# Altium footprint library ch559.PcbLib: 17 footprints (part 2 of 2)
Each footprint in its own frame and in the unit in brackets; x right, y up, seen from the top. Pads: shape width x height; smd on the part's side, far side on the other; paste and mask are expansions set on the pad; w line width, h text height; cw(c..) or ccw(c..) is an arc to the next point about the centre after c.
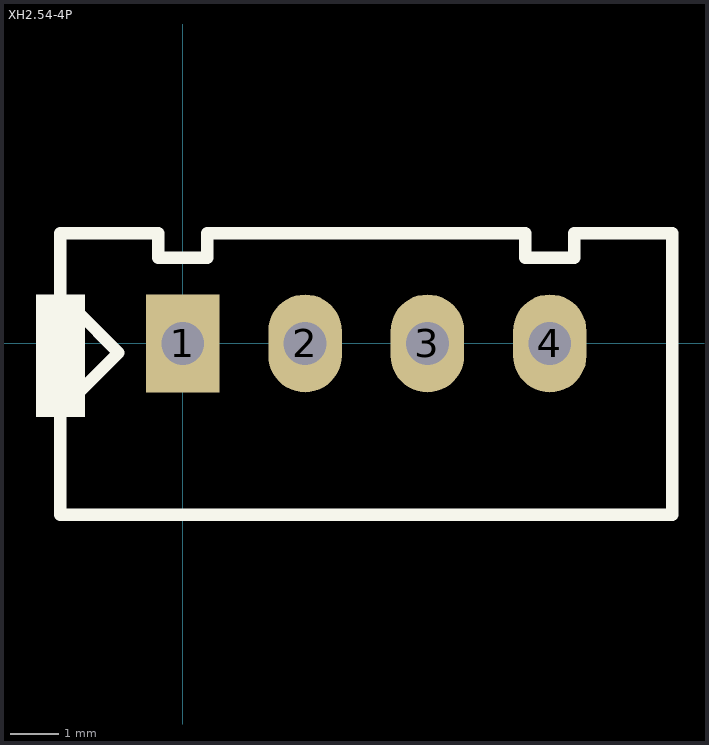
[diagram p1: the footprint, top view; thin cyan lines are the x and y axes]

## XH2.54-4P [mil]
pads (4):
  rect 60x80 hole 35: 1(0,0)
  oval 60x80 hole 35: 2(100,0) 3(200,0) 4(300,0)
Top Overlay:
  region: -80,40 -120,40 -120,-60 -80,-60
  lines w10: -87.44,-42.56 -52.44,-7.56 -87.44,27.44 ; -100,-140 400,-140 400,90 320,90 320,70 280,70 280,90 20,90 20,70 -20,70 -20,90 -100,90 -100,-140
3D body: height 78.74, standoff 0, extent -100,-140 400,90
3D body: height 255.91, standoff 0, extent 320,60 400,90
3D body: height 255.91, standoff 0, extent 20,60 280,90
3D body: height 255.91, standoff 0, extent -100,60 -20,90
3D body: height 255.91, standoff 0, extent -100,-140 400,40
3D body: height 236.22, standoff -78.74, extent -16,-16 15.37,15.43
3D body: height 236.22, standoff -78.74, extent 84,-16 115.37,15.43
3D body: height 236.22, standoff -78.74, extent 184,-16 215.37,15.43
3D body: height 236.22, standoff -78.74, extent 284,-16 315.37,15.43